# EAGLE library part ARS15Y12 (library relay)
RF SWITCHING RELAY single coil latching type, 50 ohm
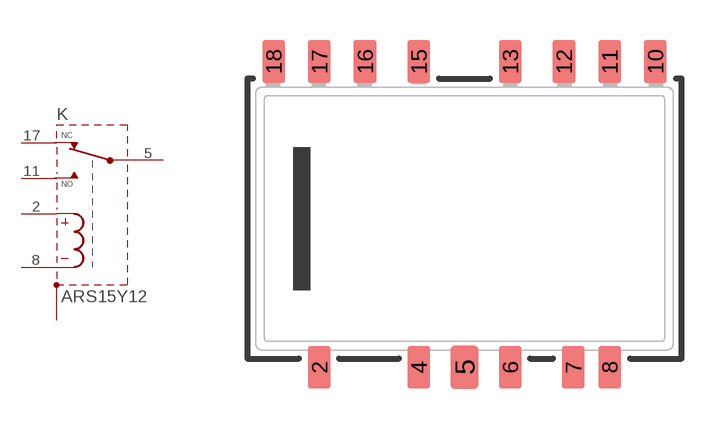
[diagram p59: symbol with the pads of ARS15Y12; footprint ARS15Y12]

Designator prefix K

## ARS15Y12  [ARS15Y12]
2  +  pas
4  S  pas
5  COM  pas
6  S  pas
8  -  pas
10  S  pas
11  NO  pas
12  S  pas
13  S  pas
15  S  pas
16  S  pas
17  NC  pas
18  S  pas

## Footprint ARS15Y12 (pad centres in mm)
RF SWITCHING RELAY
smd 0.8 x 1.5: 2 -5.08,-5.2; 4 -1.6,-5.2; 6 1.6,-5.2; 7 3.81,-5.2; 8 5.08,-5.2; 10 6.68,5.5; 11 5.08,5.5; 12 3.48,5.5; 13 1.6,5.5; 15 -1.6,5.5; 16 -3.48,5.5; 17 -5.08,5.5; 18 -6.68,5.5
smd 1 x 1.5: 5 0,-5.2